# Altium schematic symbol library Trans_RM6.SchLib: 1 symbol
Pins are listed as number, name and electrical type; pins without a type are passive.

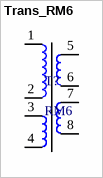
[diagram p0: symbol Trans_RM6]

## Trans_RM6
designator T?, comment RM6
footprint TRANS_RM6
pins: 1, 2, 3, 4, 5, 6, 7, 8